# EAGLE library part USD-CARD (library 000001)
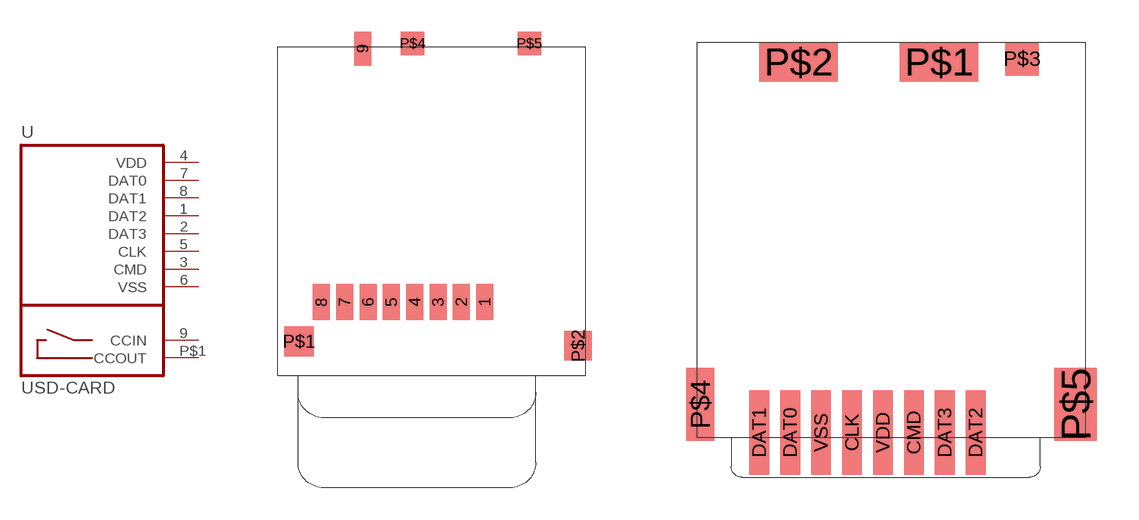
[diagram p121: symbol with the pads of ST2S008VIA; footprints ST2S008VIA, DM3CS]

Designator prefix -

## USD-CARD  [ST2S008VIA]
1  DAT2  pas
2  DAT3  pas
3  CMD  pas
4  VDD  pas
5  CLK  pas
6  VSS  pas
7  DAT0  pas
8  DAT1  pas
9  CCIN  pas
P$1  CCOUT  pas

## USD-CARDSF  [DM3CS]
CLK  CLK  pas
CMD  CMD  pas
DAT0  DAT0  pas
DAT1  DAT1  pas
DAT2  DAT2  pas
DAT3  DAT3  pas
P$1  CCIN  pas
P$2  CCOUT  pas
VDD  VDD  pas
VSS  VSS  pas

## Footprint ST2S008VIA (pad centres in mm)
smd 0.8 x 1.7: 1 3.2,0; 2 2.1,0; 3 1,0; 4 -0.1,0; 5 -1.2,0; 6 -2.3,0; 7 -3.4,0; 8 -4.5,0
smd 0.8 x 1.6: 9 -2.55,11.95
smd 1.4 x 1.4: P$1 -5.55,-1.85
smd 1.3 x 1.4: P$2 7.6,-2.05
smd 1.1 x 1.1: P$4 -0.2,12.2; P$5 5.3,12.2

## Footprint DM3CS (pad centres in mm)
smd 0.7 x 3: CLK 5.5,-13.9; CMD 7.7,-13.9; DAT0 3.3,-13.9; DAT1 2.2,-13.9; DAT2 9.9,-13.9; DAT3 8.8,-13.9; VDD 6.6,-13.9; VSS 4.4,-13.9
smd 2.8 x 1.4: P$1 8.6,-0.7; P$2 3.6,-0.7
smd 1.2 x 1.2: P$3 11.55,-0.6
smd 1 x 2.6: P$4 0.1,-12.9
smd 1.5 x 2.6: P$5 13.45,-12.9